# Altium schematic symbol library CRCW06031K20FKEA.SchLib: 1 symbol
Pins are listed as number, name and electrical type; pins without a type are passive.

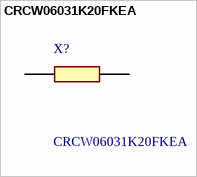
[diagram p0: symbol CRCW06031K20FKEA]

## CRCW06031K20FKEA
designator X?
Vishay CRCW Series Thick Film Surface Mount Resistor 603 Case 1.2k +/-1% 0.1W +/-100ppm/C; Geometry.Height: 0.5mm; Mouser Part Number: 71-CRCW0603-1.2K-E3; Mouser Price/Stock: https://www.mouser.co.uk/ProductDetail/Vishay-Dale/CRCW06031K20FKEA?qs=pAReC37xhjXGEGle1f9MAA%3D%3D; Manufacturer_Name: Vishay; Manufacturer_Part_Number: CRCW06031K20FKEA; Datasheet Link: http://www.vishay.com/docs/20035/dcrcwe3.pdf
footprint RESC1608X50N
pins: 1, 2